# Altium footprint library MTGNPH300Z400.PcbLib: 1 footprints
Each footprint in its own frame and in the unit in brackets; x right, y up, seen from the top. Pads: shape width x height; smd on the part's side, far side on the other; paste and mask are expansions set on the pad; w line width, h text height; cw(c..) or ccw(c..) is an arc to the next point about the centre after c.
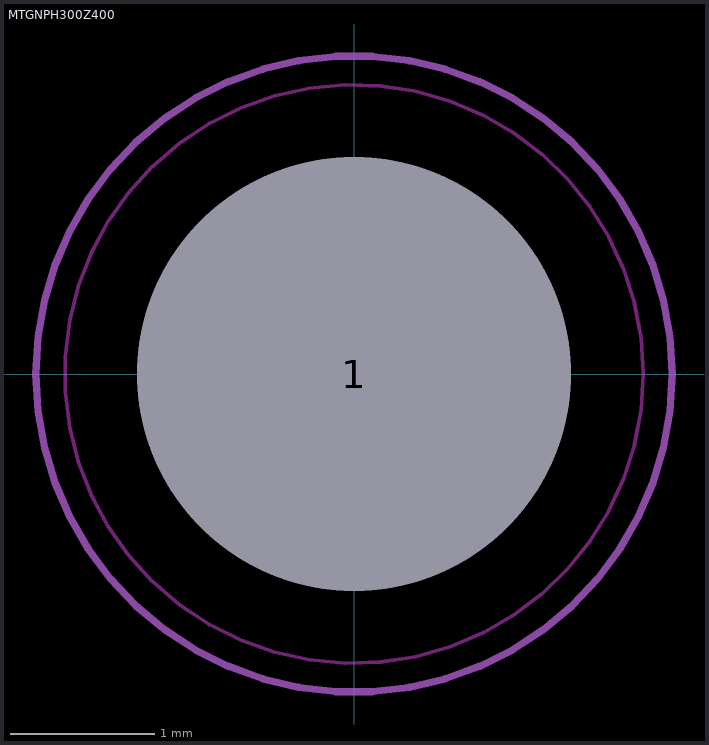
[diagram p0: the footprint, top view; thin cyan lines are the x and y axes]

## MTGNPH300Z400 [mm] "Mounting Hole, Non-Plated; 1.00 mm Clearance, 3.00 mm Hole"
pads (1):
  round 1 hole 3: 1(0,0)
Keep-Out Layer:
  circle w0.025: c0,0 r2
  circle w0.025: c0,0 r2
Mechanical 3:
  circle w0.12: c0,0 r0.44
  circle w0.12: c0,0 r1.44
Mechanical 4:
  circle w0.12: c0,0 r0.44
  circle w0.12: c0,0 r1.44
Mechanical 7:
  circle w0.05: c0,0 r2.2
  circle w0.05: c0,0 r0.25
  lines w0.05: -0.35,0 0.35,0 ; 0,-0.35 0,0.35
Mechanical 9:
  text "'.Designator'" at -5.461,-0.508 h1